# Altium schematic symbol library TF-15X15.SchLib: 1 symbol
Pins are listed as number, name and electrical type; pins without a type are passive.

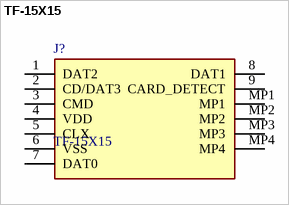
[diagram p0: symbol TF-15X15]

## TF-15X15
designator J?
Micro-SD Card Socket; Manufacturer_Name: SOFNG; Geometry.Height: 1.85mm; Manufacturer_Part_Number: TF-15X15; Mouser Part Number: *; Mouser Price/Stock: *; Arrow Part Number: *; Arrow Price/Stock: *; Datasheet Link: https://datasheet.lcsc.com/szlcsc/SOFNG-TF-15-15_C111196.pdf
footprint TF15X15
pins: 1 DAT2, 2 CD/DAT3, 3 CMD, 4 VDD, 5 CLX, 6 VSS, 7 DAT0, 8 DAT1, 9 CARD_DETECT, MP1, MP2, MP3, MP4